# Altium footprint library PR02.PcbLib: 1 footprints
Each footprint in its own frame and in the unit in brackets; x right, y up, seen from the top. Pads: shape width x height; smd on the part's side, far side on the other; paste and mask are expansions set on the pad; w line width, h text height; cw(c..) or ccw(c..) is an arc to the next point about the centre after c.
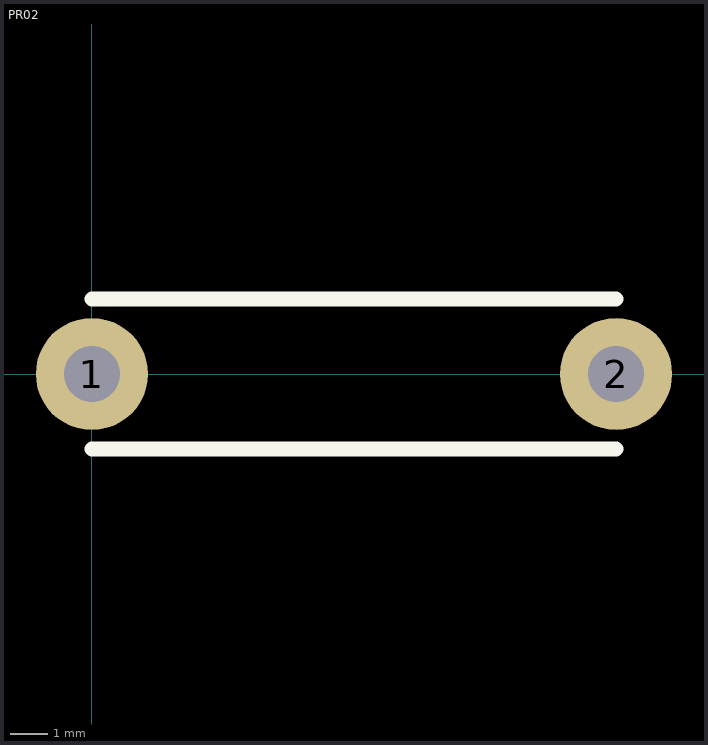
[diagram p0: the footprint, top view; thin cyan lines are the x and y axes]

## PR02 [mm] "TH 2W resistor family"
pads (2):
  round 3 hole 1.5: 1(0,0) 2(14,0)
Top Overlay:
  lines w0.4: 0,-2 14,-2 ; 0,2 14,2